# EAGLE library part SPE_BO_TMP102_6PIN (library Rascal)
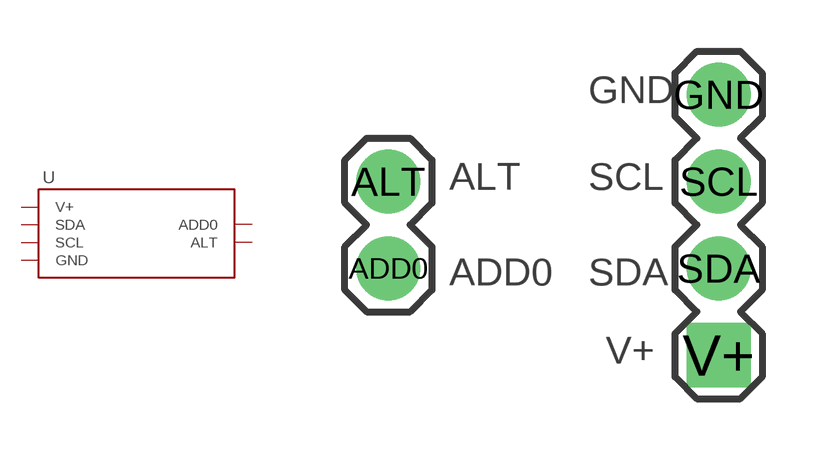
[diagram p1: symbol with the pads of SPE_BO_TMP102_6PIN; footprint SPE_BO_TMP102_6PIN]

Designator prefix -

## SPE_BO_TMP102_6PIN  [SPE_BO_TMP102_6PIN]
ADD0  ADD0
ALT  ALT
GND  GND
SCL  SCL
SDA  SDA
V+  V+

## Footprint SPE_BO_TMP102_6PIN (pad centres in mm)
drill 1.016 pad 1.88 round: ADD0 1.524,4.064; ALT 1.524,6.604; GND 11.176,9.144; SCL 11.176,6.604; SDA 11.176,4.064
drill 1.016 pad 1.88 square: V+ 11.176,1.524